# Altium schematic symbol library ADE-2ASK.SchLib: 1 symbol
Pins are listed as number, name and electrical type; pins without a type are passive.

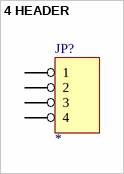
[diagram p0: symbol 4 HEADER]

## 4 HEADER
designator JP?
4 Pin Header
footprint PL-052
pins: 1, 2, 3, 4